# Altium schematic symbol library SCHLIB.SchLib: 4 symbols
Pins are listed as number, name and electrical type; pins without a type are passive.

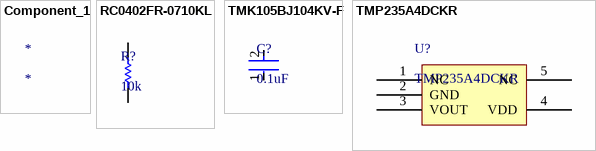
[diagram p0: symbols Component_1 to TMP235A4DCKR]

## Component_1
designator *

## RC0402FR-0710KL
designator R?, comment 10k
10 kOhms ±1% 0.063W, 1/16W Chip Resistor 0402 (1005 Metric) Moisture Resistant Thick Film; PARTNUM: RC0402FR-0710KL; MANUFAC.: YAGEO; VENDOR: Digikey; Resistance: 10k
footprint RES-0402
pins: 1, 2

## TMK105BJ104KV-F
designator C?, comment 0.1uF
0.1 µF ±10% 25V Ceramic Capacitor X5R 0402 (1005 Metric); PARTNUM: TMK105BJ104KV-F; MANUFAC.: Taiyo Yuden; VENDOR: Digikey; Capacitance: 0.1uF
footprint CAPC1005X55N
pins: 2,  1 1

## TMP235A4DCKR
designator U?
Temperature Sensor Analog, Local -40°C ~ 150°C 10mV/°C SC-70-5; MANUFAC.: Texas Instruments; VENDOR: Digikey; PARTNUM: TMP235A4DCKR
footprint TMP
pins: 1 NC, 2 GND, 3 VOUT, 4 VDD, 5 NC